# Altium schematic symbol library SCH - MCU - ATSAM - MICROCHIP ATSAMG55G19A-UUT WLCSP49.SchLib: 1 symbol
Pins are listed as number, name and electrical type; pins without a type are passive.

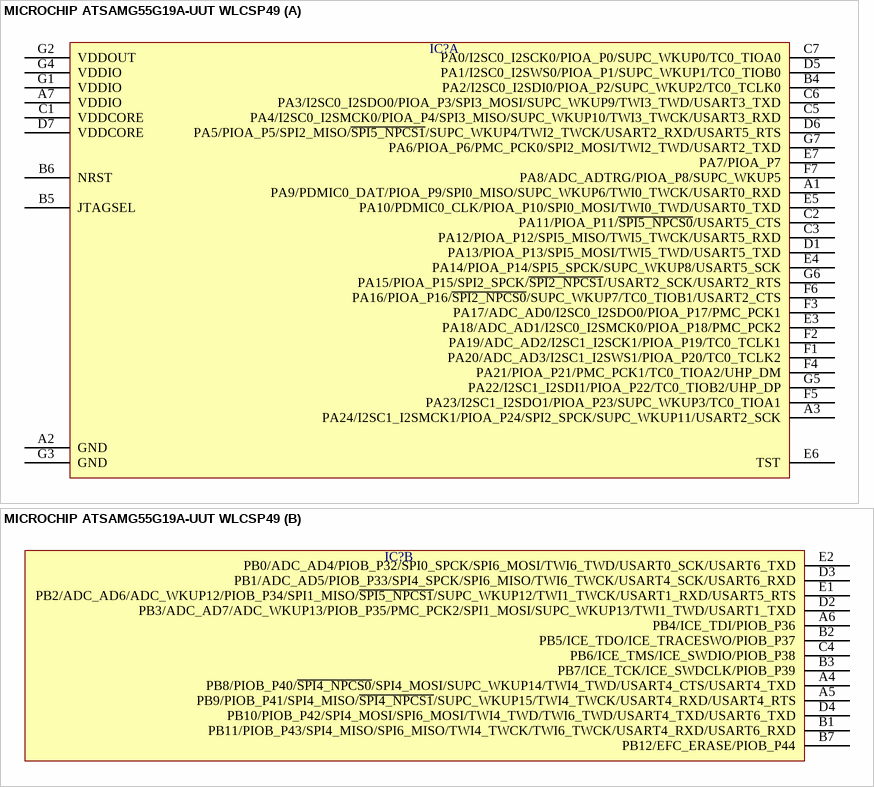
[diagram p0: symbol MICROCHIP ATSAMG55G19A-UUT WLCSP49]

## MICROCHIP ATSAMG55G19A-UUT WLCSP49
designator IC?  (value not drawn)
part A pins: A1 PA9/PDMIC0_DAT/PIOA_P9/SPI0_MISO/SUPC_WKUP6/TWI0_TWCK/USART0_RXD, A2 GND, A3 PA24/I2SC1_I2SMCK1/PIOA_P24/SPI2_SPCK/SUPC_WKUP11/USART2_SCK, A7 VDDIO, B4 PA2/I2SC0_I2SDI0/PIOA_P2/SUPC_WKUP2/TC0_TCLK0, B5 JTAGSEL, B6 NRST, C1 VDDCORE, C2 PA11/PIOA_P11/~{SPI5_NPCS0}/USART5_CTS, C3 PA12/PIOA_P12/SPI5_MISO/TWI5_TWCK/USART5_RXD, C5 PA4/I2SC0_I2SMCK0/PIOA_P4/SPI3_MISO/SUPC_WKUP10/TWI3_TWCK/USART3_RXD, C6 PA3/I2SC0_I2SDO0/PIOA_P3/SPI3_MOSI/SUPC_WKUP9/TWI3_TWD/USART3_TXD, C7 PA0/I2SC0_I2SCK0/PIOA_P0/SUPC_WKUP0/TC0_TIOA0, D1 PA13/PIOA_P13/SPI5_MOSI/TWI5_TWD/USART5_TXD, D5 PA1/I2SC0_I2SWS0/PIOA_P1/SUPC_WKUP1/TC0_TIOB0, D6 PA5/PIOA_P5/SPI2_MISO/~{SPI5_NPCS1}/SUPC_WKUP4/TWI2_TWCK/USART2_RXD/USART5_RTS, D7 VDDCORE, E3 PA18/ADC_AD1/I2SC0_I2SMCK0/PIOA_P18/PMC_PCK2, E4 PA14/PIOA_P14/SPI5_SPCK/SUPC_WKUP8/USART5_SCK, E5 PA10/PDMIC0_CLK/PIOA_P10/SPI0_MOSI/TWI0_TWD/USART0_TXD, E6 TST, E7 PA7/PIOA_P7, F1 PA20/ADC_AD3/I2SC1_I2SWS1/PIOA_P20/TC0_TCLK2, F2 PA19/ADC_AD2/I2SC1_I2SCK1/PIOA_P19/TC0_TCLK1, F3 PA17/ADC_AD0/I2SC0_I2SDO0/PIOA_P17/PMC_PCK1, F4 PA21/PIOA_P21/PMC_PCK1/TC0_TIOA2/UHP_DM, F5 PA23/I2SC1_I2SDO1/PIOA_P23/SUPC_WKUP3/TC0_TIOA1, F6 PA16/PIOA_P16/~{SPI2_NPCS0}/SUPC_WKUP7/TC0_TIOB1/USART2_CTS, F7 PA8/ADC_ADTRG/PIOA_P8/SUPC_WKUP5, G1 VDDIO, G2 VDDOUT, G3 GND, G4 VDDIO, G5 PA22/I2SC1_I2SDI1/PIOA_P22/TC0_TIOB2/UHP_DP, G6 PA15/PIOA_P15/SPI2_SPCK/~{SPI2_NPCS1}/USART2_SCK/USART2_RTS, G7 PA6/PIOA_P6/PMC_PCK0/SPI2_MOSI/TWI2_TWD/USART2_TXD
part B pins: A4 PB8/PIOB_P40/~{SPI4_NPCS0}/SPI4_MOSI/SUPC_WKUP14/TWI4_TWD/USART4_CTS/USART4_TXD, A5 PB9/PIOB_P41/SPI4_MISO/~{SPI4_NPCS1}/SUPC_WKUP15/TWI4_TWCK/USART4_RXD/USART4_RTS, A6 PB4/ICE_TDI/PIOB_P36, B1 PB11/PIOB_P43/SPI4_MISO/SPI6_MISO/TWI4_TWCK/TWI6_TWCK/USART4_RXD/USART6_RXD, B2 PB5/ICE_TDO/ICE_TRACESWO/PIOB_P37, B3 PB7/ICE_TCK/ICE_SWDCLK/PIOB_P39, B7 PB12/EFC_ERASE/PIOB_P44, C4 PB6/ICE_TMS/ICE_SWDIO/PIOB_P38, D2 PB3/ADC_AD7/ADC_WKUP13/PIOB_P35/PMC_PCK2/SPI1_MOSI/SUPC_WKUP13/TWI1_TWD/USART1_TXD, D3 PB1/ADC_AD5/PIOB_P33/SPI4_SPCK/SPI6_MISO/TWI6_TWCK/USART4_SCK/USART6_RXD, D4 PB10/PIOB_P42/SPI4_MOSI/SPI6_MOSI/TWI4_TWD/TWI6_TWD/USART4_TXD/USART6_TXD, E1 PB2/ADC_AD6/ADC_WKUP12/PIOB_P34/SPI1_MISO/~{SPI5_NPCS1}/SUPC_WKUP12/TWI1_TWCK/USART1_RXD/USART5_RTS, E2 PB0/ADC_AD4/PIOB_P32/SPI0_SPCK/SPI6_MOSI/TWI6_TWD/USART0_SCK/USART6_TXD